# Altium footprint library F9035_POWER_V0(1.6mm) 251120.PcbLib: 27 footprints (part 2 of 2)
Each footprint in its own frame and in the unit in brackets; x right, y up, seen from the top. Pads: shape width x height; smd on the part's side, far side on the other; paste and mask are expansions set on the pad; w line width, h text height; cw(c..) or ccw(c..) is an arc to the next point about the centre after c.
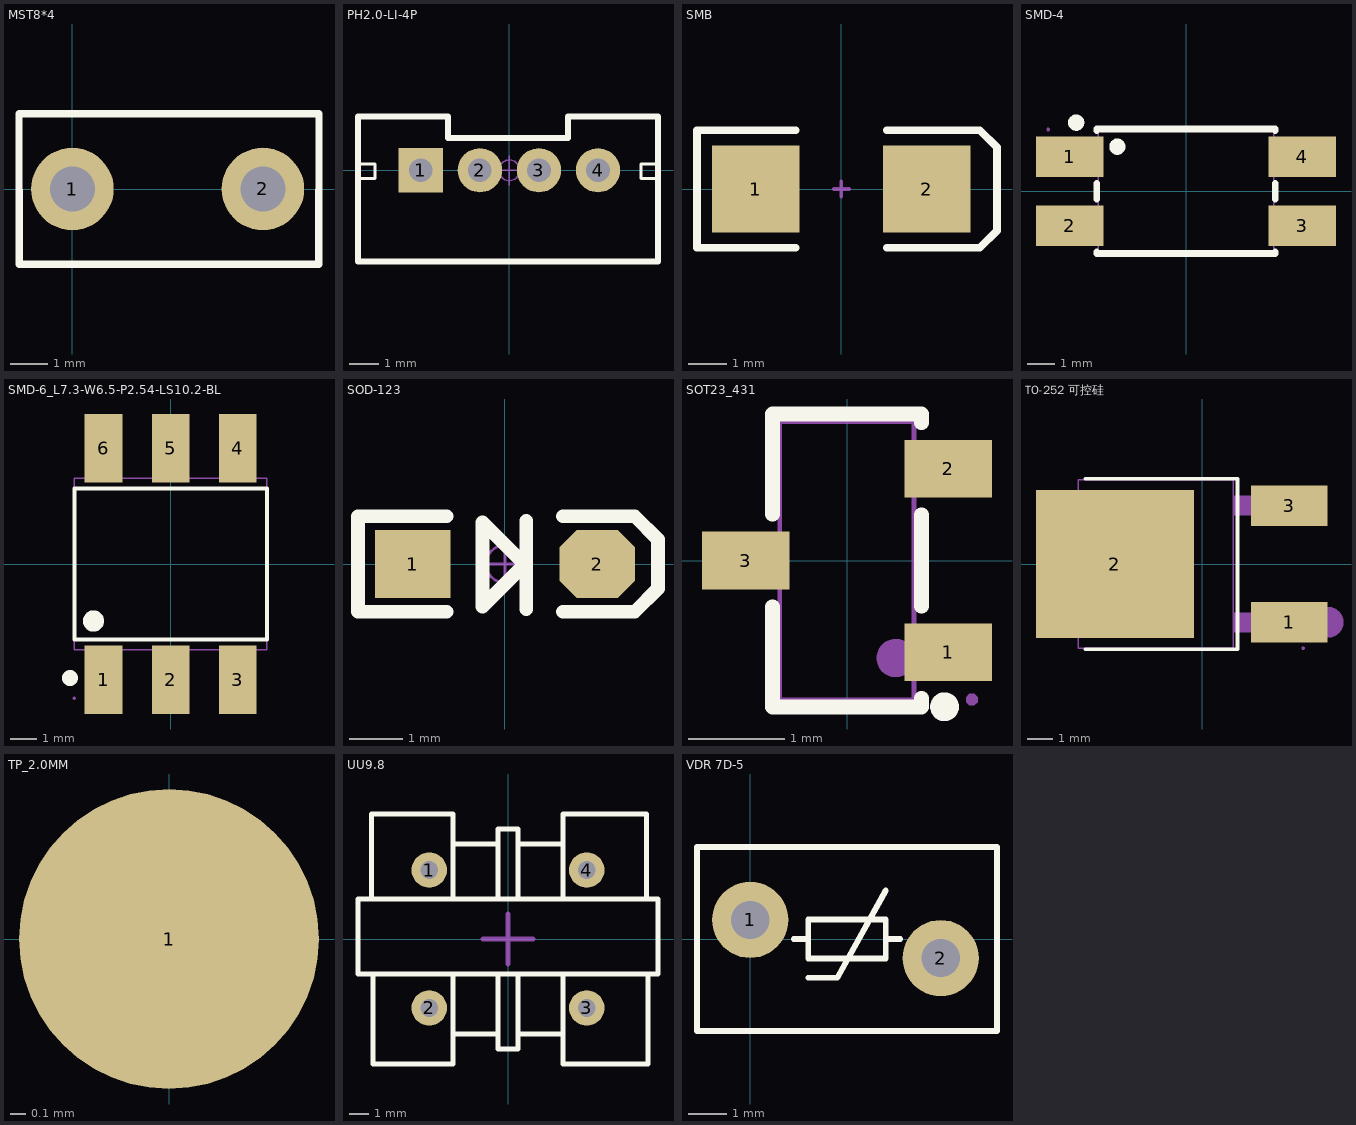
[diagram p1: the footprints below, top view; thin cyan lines are the x and y axes]

## MST8*4 [mm]
pads (2):
  round 2.2 hole 1.2: 1(0,0) 2(5.08,0)
Top Overlay:
  lines w0.2: -1.425,-2 6.575,-2 6.575,2 -1.425,2 -1.425,-2
3D body: height 8.5, standoff 0, extent -1.425,-2 6.575,2

## PH2.0-LI-4P [mm] "长：9.9mm，宽：4.7mm，高：6mm"
height 10
pads (4):
  rect 1.5x1.5 hole 0.8: 1(-3,0)
  round 1.5 hole 0.8: 2(-1,0) 3(1,0) 4(3,0)
Top Overlay:
  lines w0.1: -5.128,-0.284 -4.548,-0.284 -4.548,0.216 -5.128,0.216 ; 5.032,-0.284 4.452,-0.284 4.452,0.216 5.032,0.216
  lines w0.2: -5.128,1.816 -5.128,-3.084 5.032,-3.084 5.032,1.816 ; -2.08,1.816 -2.08,1.1 1.984,1.1 1.984,1.816
  lines w0.203: -5.128,1.816 -2.08,1.816 ; 1.984,1.816 5.032,1.816
Mechanical 15:
  circle w0.05: c0,0 r0.35
  lines w0.05: -0.5,0 0.5,0 ; 0,-0.5 0,0.5
3D body "PH2.0-LI-4P.STEP": height 6.01, standoff -2.99, extent -4.95,-3 4.95,1.7

## SMB [mm] "DO-214-AA/SMB; 2 C-Bend Leads; Body 5.3 x 3.6 mm, inc. leads (LxW)"
height 2.54
pads (2):
  rect 2.3x2.3 smd: 1(-2.25,0) 2(2.25,0)
Top Overlay:
  lines w0.2: -1.2,-1.55 -3.8,-1.55 -3.8,1.55 -1.2,1.55 ; 1.2,-1.55 3.65,-1.55 4.1,-1.1 4.1,1.1 3.65,1.55 1.2,1.55
Mechanical 1:
  lines w0.1: -0.2,0 0.2,0 ; 0,-0.2 0,0.2

## SMD-4 [mm]
pads (4):
  rect 2.5x1.5 smd: 1(-4.3,1.27) 2(-4.3,-1.27) 3(4.3,-1.27) 4(4.3,1.27)
Top Overlay:
  circle w0.3: c-2.54,1.651 r0.15
  circle w0.3: c-4.064,2.54 r0.15
  lines w0.254: -3.3,-2.251 -3.3,-2.3 3.3,-2.3 3.3,-2.251 ; -3.3,-0.289 -3.3,0.289 ; -3.3,2.251 -3.3,2.3 3.3,2.3 3.3,2.251 ; 3.3,-0.289 3.3,0.289
Mechanical 6:
  circle w0.6: c-4.572,1.27 r0.3
Mechanical 15:
  region: -3.15,-0.67 -3.15,-1.87 -4.11,-1.87 -4.11,-0.67
  region: -3.15,1.87 -3.15,0.67 -4.11,0.67 -4.11,1.87
  region: 3.15,-1.87 3.15,-0.67 4.11,-0.67 4.11,-1.87
  region: -4.1,-0.67 -4.1,-1.87 -5.1,-1.87 -5.1,-0.67
  region: -4.1,1.87 -4.1,0.67 -5.1,0.67 -5.1,1.87
  region: 3.15,0.67 3.15,1.87 4.11,1.87 4.11,0.67
  region: 4.1,0.67 4.1,1.87 5.1,1.87 5.1,0.67
  region: 4.1,-1.87 4.1,-0.67 5.1,-0.67 5.1,-1.87
  region: -5.04,2.29 -5.04,2.315 -5.075,2.35 -5.125,2.35 -5.16,2.315 -5.16,2.29 -5.16,2.265 -5.125,2.23 -5.075,2.23 -5.04,2.265
  lines w0.051: -3.25,-2.29 -3.25,2.29 3.25,2.29 3.25,-2.29 -3.25,-2.29
3D body: height 3.5, standoff 0, extent -4.34,-2.31 4.34,2.31

## SMD-6_L7.3-W6.5-P2.54-LS10.2-BL [mm]
pads (6):
  rect 1.422x2.6 smd: 1(-2.54,-4.38) 2(0,-4.38) 3(2.54,-4.38) 4(2.54,4.38) 5(0,4.38) 6(-2.54,4.38)
Top Overlay:
  circle w0.4: c-2.921,-2.159 r0.2
  circle w0.3: c-3.81,-4.318 r0.15
  lines w0.152: -3.646,-2.851 -3.646,2.851 3.646,2.851 3.646,-2.851 -3.646,-2.851
Mechanical 6:
  circle w0.5: c-2.54,-5.08 r0.25
Mechanical 15:
  region: -3.14,-5.08 -3.14,-4.08 -1.94,-4.08 -1.94,-5.08
  region: -3.14,-4.09 -3.14,-3.24 -1.94,-3.24 -1.94,-4.09
  region: -0.6,-5.08 -0.6,-4.08 0.6,-4.08 0.6,-5.08
  region: -0.6,-4.09 -0.6,-3.24 0.6,-3.24 0.6,-4.09
  region: 1.94,-5.08 1.94,-4.08 3.14,-4.08 3.14,-5.08
  region: 1.94,-4.09 1.94,-3.24 3.14,-3.24 3.14,-4.09
  region: -3.14,5.08 -3.14,4.08 -1.94,4.08 -1.94,5.08
  region: -3.14,4.09 -3.14,3.24 -1.94,3.24 -1.94,4.09
  region: -0.6,5.08 -0.6,4.08 0.6,4.08 0.6,5.08
  region: -0.6,4.09 -0.6,3.24 0.6,3.24 0.6,4.09
  region: 1.94,5.08 1.94,4.08 3.14,4.08 3.14,5.08
  region: 1.94,4.09 1.94,3.24 3.14,3.24 3.14,4.09
  region: -3.59,-5.08 -3.591,-5.056 -3.626,-5.021 -3.674,-5.021 -3.709,-5.056 -3.71,-5.08 -3.709,-5.105 -3.674,-5.139 -3.625,-5.139 -3.591,-5.104
  lines w0.051: -3.65,-3.25 -3.65,3.25 3.65,3.25 3.65,-3.25 -3.65,-3.25
3D body: height 4.3, standoff 0, extent -3.68,-4.74 3.63,4.67

## SOD-123 [mil] "2.7x1.6X1.1mm（长宽高，不包括引脚）"
pads (2):
  rect 55x50 smd: 1(-67.5,0)
  oct 55x50 smd: 2(67.5,0)
Top Overlay:
  lines w10: -42.5,-35 -107.5,-35 -107.5,35 -42.5,35 ; 14,-0.8 -16.4,-31.2 -16.4,30.5 15.6,-1.5 ; 15.6,-33.1 15.6,31.7 ; 42.5,-35 95,-35 112,-18 112,18 95,35 42.5,35
Mechanical 15:
  circle w1.97: c0,0 r13.78
  lines w1.97: -19.68,0 19.68,0 ; 0,-19.68 0,19.68
3D body "SOD-123.STEP": height 48.03, standoff 0, extent -72.83,-31.5 72.83,31.5

## SOT23_431 [mm]
pads (3):
  rect 0.91x0.6 smd: 1(1.055,-0.955) 2(1.055,0.955) 3(-1.055,0)
Top Overlay:
  circle w0.15: c1.016,-1.524 r0.075
  lines w0.152: -0.776,-0.48 -0.776,-1.526 0.776,-1.526 0.776,-1.435 ; -0.776,0.48 -0.776,1.526 0.776,1.526 0.776,1.435 ; 0.776,-0.475 0.776,0.475
Mechanical 2:
  circle w0.2: c0.508,-1.016 r0.1
Mechanical 6:
  lines w0.051: -0.7,-1.45 -0.7,1.45 0.7,1.45 0.7,-1.45 -0.7,-1.45
Mechanical 7:
  region: 0.96,-0.73 0.69,-0.73 0.69,-1.18 0.96,-1.18
  region: 0.96,1.18 0.69,1.18 0.69,0.73 0.96,0.73
  region: -0.96,0.225 -0.69,0.225 -0.69,-0.225 -0.96,-0.225
Mechanical 8:
  region: 1.36,-1.45 1.36,-1.475 1.325,-1.51 1.275,-1.51 1.24,-1.475 1.24,-1.45 1.24,-1.425 1.275,-1.39 1.325,-1.39 1.36,-1.425
Mechanical 9:
  region: 1.3,-0.73 0.95,-0.73 0.95,-1.18 1.3,-1.18
  region: 1.3,1.18 0.95,1.18 0.95,0.73 1.3,0.73
  region: -1.3,0.225 -0.95,0.225 -0.95,-0.225 -1.3,-0.225

## TO-252 可控硅 [mm]
pads (3):
  rect 3x1.6 smd: 1(3.424,-2.29) 3(3.424,2.29)
  rect 6.2x5.8 smd: 2(-3.424,0)
Top Overlay:
  lines w0.152: -4.585,-3.346 1.383,-3.346 1.383,3.346 -4.585,3.346
Mechanical 6:
  circle w0.6: c4.953,-2.286 r0.3
Mechanical 15:
  region: 1.211,-2.67 1.211,-1.91 2.381,-1.91 2.381,-2.67
  region: 2.371,-2.67 2.371,-1.91 3.961,-1.91 3.961,-2.67
  region: 1.211,1.91 1.211,2.67 2.381,2.67 2.381,1.91
  region: 2.371,1.91 2.371,2.67 3.961,2.67 3.961,1.91
  region: -4.954,2.505 -0.938,2.505 -0.938,-2.505 -4.954,-2.505 -5.954,-1.505 -5.954,1.505
  region: 4.021,-3.3 4.021,-3.275 3.986,-3.24 3.937,-3.24 3.901,-3.275 3.901,-3.3 3.901,-3.325 3.937,-3.36 3.986,-3.36 4.021,-3.325
  lines w0.051: -4.874,-3.3 1.221,-3.3 1.221,3.3 -4.874,3.3 -4.874,-3.3

## TP_2.0MM [mm]
height 1.1
pads (1):
  round 2 smd: 1(0,0)

## UU9.8 [mm] "17*12*17mm(长宽高）"
height 0.5
pads (4):
  round 1.8 hole 0.9: 1(-4,3.5) 2(-4,-3.5) 3(4,-3.5) 4(4,3.5)
Top Overlay:
  lines w0.254: -6.943,2.032 -6.943,6.35 -2.794,6.35 -2.794,2.032 ; -6.858,-1.778 -6.858,-6.35 -2.794,-6.35 -2.794,-1.778 ; -2.794,-4.826 -0.638,-4.826 ; -2.794,4.826 -0.508,4.826 ; -0.508,-1.778 -0.508,-5.588 0.508,-5.588 0.508,-1.778 ; -0.508,2.032 -0.508,5.588 0.508,5.588 0.508,2.032 ; 0.508,-4.826 2.794,-4.826 ; 0.508,4.826 2.794,4.826 ; 2.794,-1.778 2.794,-6.35 7.112,-6.35 7.112,-1.778 ; 2.794,2.032 2.794,6.35 7.027,6.35 7.027,2.032 ; -7.62,-1.778 7.62,-1.778 7.62,2.032 -7.62,2.032 -7.62,-1.778
Mechanical 15:
  lines w0.254: -1.27,0 1.27,0 ; 0,-1.27 0,1.27
3D body "UU9.8.STEP": height 17.05, standoff -3.45, extent -8.5,-6 8.5,6

## VDR 7D-5 [mm] "压敏电阻9mm*4.5mm(直径*厚度）"
pads (2):
  round 2 hole 1: 1(0,0.5) 2(5,-0.5)
Top Overlay:
  lines w0.152: 1.143,0 1.524,0 ; 1.524,-1.016 2.286,-1.016 3.556,1.27 ; 3.556,0 3.937,0 ; -1.397,-2.413 6.477,-2.413 6.477,2.413 -1.397,2.413 -1.397,-2.413 ; 1.524,-0.508 1.524,0.508 3.556,0.508 3.556,-0.508 1.524,-0.508
3D body "9D-4.5.STEP": height 10, standoff -3.5, extent -1.998,-1.5 6.999,1.5